# Altium integrated library TLP521-1.IntLib: 1 symbol
Pins are listed as number, name and electrical type; pins without a type are passive.

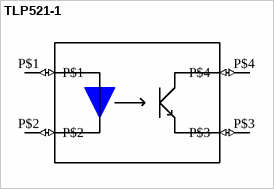
[diagram p0: symbol TLP521-1]

## TLP521-1
designator U?  (value not drawn)
Value: *
footprint TLP521-1_TLP521-1(Primary)
pins: P$1 (io), P$2 (io), P$3 (io), P$4 (io)